# Altium schematic symbol library SCH - RF - SWITCH - SKYWORKS SKY13414-485LF.SchLib: 1 symbol
Pins are listed as number, name and electrical type; pins without a type are passive.

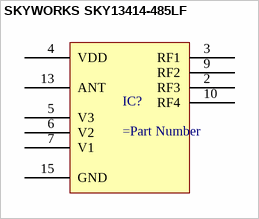
[diagram p0: symbol SKYWORKS SKY13414-485LF]

## SKYWORKS SKY13414-485LF
designator IC?
pins: 2 RF3, 3 RF1, 4 VDD, 5 V3, 6 V2, 7 V1, 9 RF2, 10 RF4, 13 ANT, 15 GND